# EAGLE library part MA06-1-MOTOR (library VehicleDriverParts)
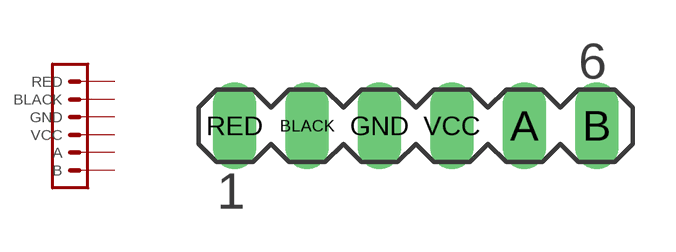
[diagram p1: symbol with the pads of MA06-1-MOTOR; footprint MA06-1-MOTOR]

Designator prefix -

## MA06-1-MOTOR  [MA06-1-MOTOR]
A  A  out
B  B  out
BLACK  BLACK  in
GND  GND
RED  RED  in
VCC  VCC

## Footprint MA06-1-MOTOR (pad centres in mm)
PIN HEADER
drill 1.016 long: A 3.81,0; B 6.35,0; BLACK -3.81,0; GND -1.27,0; RED -6.35,0; VCC 1.27,0